# EAGLE library part LED-3MM-4X4GRID (library Adafruit Trellis)
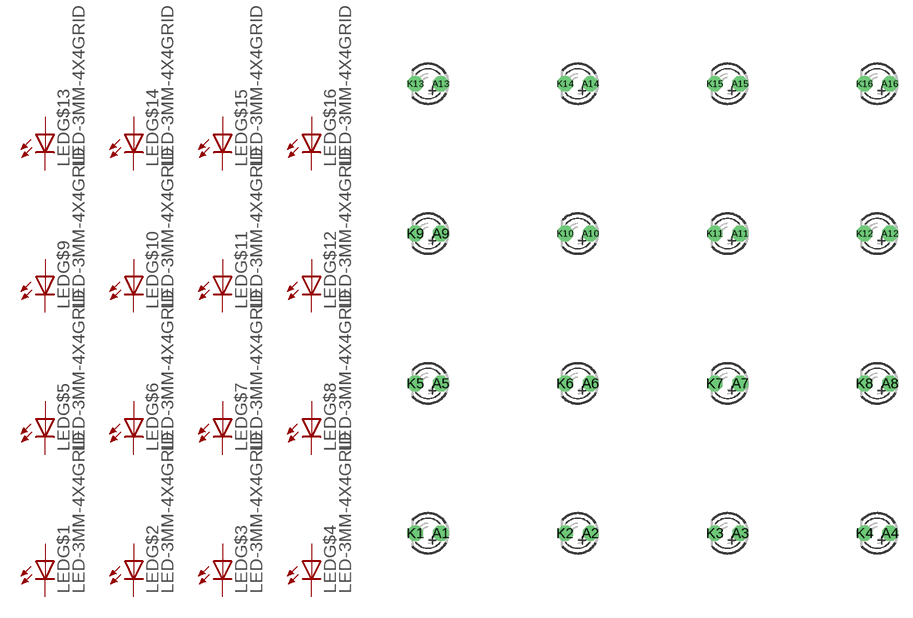
[diagram p0: symbol with the pads of LED3MM-4X4GRID; footprint LED3MM-4X4GRID]

Designator prefix LED; gates G$1=LED-1 G$2=LED-1 G$3=LED-1 G$4=LED-1 G$5=LED-1 G$6=LED-1 G$7=LED-1 G$8=LED-1 G$9=LED-1 G$10=LED-1 G$11=LED-1 G$12=LED-1 G$13=LED-1 G$14=LED-1 G$15=LED-1 G$16=LED-1

## LED-3MM-4X4GRID-3MM  [LED3MM-4X4GRID]
A1  G$1:A  pas
A2  G$2:A  pas
A3  G$3:A  pas
A4  G$4:A  pas
A5  G$5:A  pas
A6  G$6:A  pas
A7  G$7:A  pas
A8  G$8:A  pas
A9  G$9:A  pas
A10  G$10:A  pas
A11  G$11:A  pas
A12  G$12:A  pas
A13  G$13:A  pas
A14  G$14:A  pas
A15  G$15:A  pas
A16  G$16:A  pas
K1  G$1:C  pas
K2  G$2:C  pas
K3  G$3:C  pas
K4  G$4:C  pas
K5  G$5:C  pas
K6  G$6:C  pas
K7  G$7:C  pas
K8  G$8:C  pas
K9  G$9:C  pas
K10  G$10:C  pas
K11  G$11:C  pas
K12  G$12:C  pas
K13  G$13:C  pas
K14  G$14:C  pas
K15  G$15:C  pas
K16  G$16:C  pas

## Footprint LED3MM-4X4GRID (pad centres in mm)
LED 3 mm, round
drill 0.813 pad 1.524 octagon: A1 -21.23,-22.5; A2 -6.23,-22.5; A3 8.77,-22.5; A4 23.77,-22.5; A5 -21.23,-7.5; A6 -6.23,-7.5; A7 8.77,-7.5; A8 23.77,-7.5; A9 -21.23,7.5; A10 -6.23,7.5; A11 8.77,7.5; A12 23.77,7.5; A13 -21.23,22.5; A14 -6.23,22.5; A15 8.77,22.5; A16 23.77,22.5; K1 -23.77,-22.5; K2 -8.77,-22.5; K3 6.23,-22.5; K4 21.23,-22.5; K5 -23.77,-7.5; K6 -8.77,-7.5; K7 6.23,-7.5; K8 21.23,-7.5; K9 -23.77,7.5; K10 -8.77,7.5; K11 6.23,7.5; K12 21.23,7.5; K13 -23.77,22.5; K14 -8.77,22.5; K15 6.23,22.5; K16 21.23,22.5